# Altium schematic symbol library SCH - POWER - SWITCHMODE - TI TPS568215RNN.SchLib: 1 symbol
Pins are listed as number, name and electrical type; pins without a type are passive.

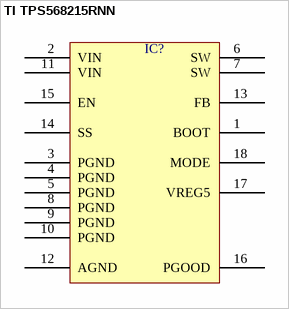
[diagram p0: symbol TI TPS568215RNN]

## TI TPS568215RNN
designator IC?  (value not drawn)
pins: 1 BOOT, 2 VIN, 3 PGND, 4 PGND, 5 PGND, 6 SW, 7 SW, 8 PGND, 9 PGND, 10 PGND, 11 VIN, 12 AGND, 13 FB, 14 SS, 15 EN, 16 PGOOD, 17 VREG5, 18 MODE